# EAGLE library part LM2903DGK (library texas-instruments)
IC DUAL DIFF COMPARATOR
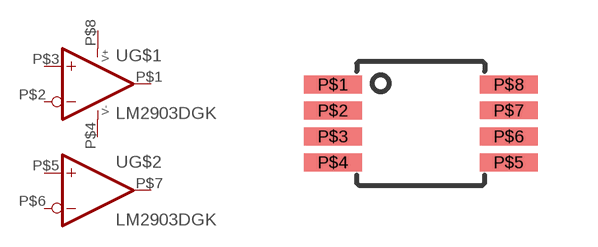
[diagram p34: symbol with the pads of VSSOP-8(DGK); footprint VSSOP-8(DGK)]

Designator prefix U; gates G$1=COMP G$2=COMP G$3=PWR+-

## LM2903DGK (DIGIKEY: 296-16806-1-ND; P1I: o)  [VSSOP-8(DGK)]
P$1  G$1:OUT  oc
P$2  G$1:-IN  in
P$3  G$1:+IN  in
P$4  G$3:V-  pwr
P$5  G$2:+IN  in
P$6  G$2:-IN  in
P$7  G$2:OUT  oc
P$8  G$3:V+  pwr

## Footprint VSSOP-8(DGK) (pad centres in mm)
smd 1.45 x 0.45: P$1 -2.2,0.975; P$2 -2.2,0.324; P$3 -2.2,-0.325; P$4 -2.2,-0.975; P$5 2.2,-0.975; P$6 2.2,-0.325; P$7 2.2,0.325; P$8 2.2,0.975